# Altium schematic symbol library ICs.SchLib: 15 symbols
Pins are listed as number, name and electrical type; pins without a type are passive.

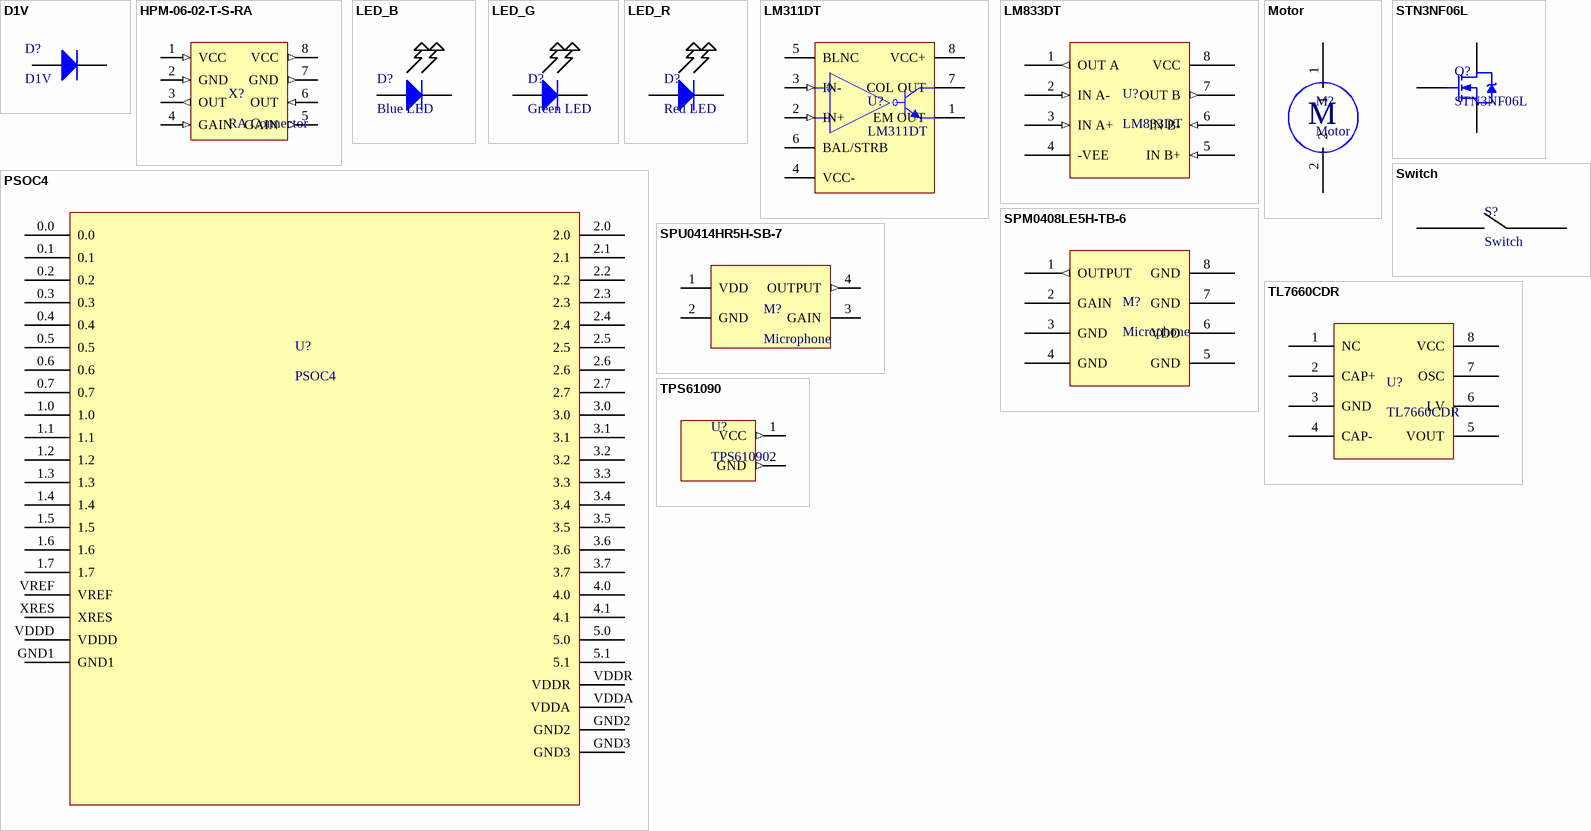
[diagram p0: symbols D1V to TPS61090]

## D1V
designator D?
Standard 1V Diode; Manufacturer: Bourns Inc.; Manufacturer Part Number: CD1206-S01575; Voltage - DC Reverse (Vr) (Max): 100V; Current - Average Rectified (Io): 150mA; Voltage - Forward (Vf) (Max) @ If: 1V @ 50mA; Speed: Small Signal =< 200mA (Io), Any Speed; Reverse Recovery Time (trr): 4ns; Current - Reverse Leakage @ Vr: 2.5µA @ 100V; Capacitance @ Vr, F: 3pF @ 0V, 100MHz; Supplier 1: Digi-Key; RoHS: RoHS Compliant; Category: Discrete Semiconductor Products; Stock 1: 122779; Pricing 1: 1=0.15, 10=0.142, 25=0.1288, 100=0.0927, 250=0.0546, 500=0.04532, 1000=0.0309, 2500=0.02626 (USD); Packaging: Cut Tape (CT); Part Status: Active; Diode Type: Standard; Mounting Type: Surface Mount; Package / Case: 1206 (3216 Metric); Supplier Device Package: 1206; Operating Temperature - Junction: -55°C ~ 125°C; ComponentLink1URL: http://www.bourns.com/docs/Product-Datasheets/CD1206_S01575.pdf; ComponentLink1Description: http://www.bourns.com/docs/Product-Datasheets/CD1206_S01575.pdf; Supplier Part Number 1: CD1206-S01575CT-ND
footprint D1206
pins: 1 A, 2 K

## HPM-06-02-T-S-RA
designator X?, comment RA Connector
Right Angle Board-to-Board Connector; Manufacturer: 3M; Manufacturer Part Number: 951104-7622-AR; Connector Type: Header, Unshrouded; Pitch: 0.079" (2.00mm); Number of Positions: 4; Number of Positions Loaded: All; Supplier 1: Digi-Key; RoHS: RoHS Compliant; Category: Connectors, Interconnects; Stock 1: 4791; Pricing 1: 1=0.41, 10=0.385, 25=0.33, 50=0.2806, 100=0.2695, 250=0.242, 500=0.231, 1000=0.1925, 2500=0.176 (USD); Packaging: Bulk; Part Status: Active; Contact Type: Male Pin; Number of Rows: 1; Row Spacing: -; Mounting Type: Through Hole, Right Angle; Termination: Solder; Fastening Type: -; Contact Mating Length: 0.173" (4.40mm); Features: -; Contact Finish: Gold; Contact Finish Thickness: Flash; Color: Black; ComponentLink1URL: http://multimedia.3m.com/mws/media/438474O/3mtm-pin-strip-header-ts2156.pdf; ComponentLink1Description: http://multimedia.3m.com/mws/media/438474O/3mtm-pin-strip-header-ts2156.pdf; Supplier Part Number 1: 3M9306-ND
footprint 951104-7622-AR
pins: 1 VCC (in), 2 GND (in), 3 OUT (out), 4 GAIN (in), 5 GAIN (out), 6 OUT (in), 7 GND (out), 8 VCC (out)

## LED_B
designator D?, comment Blue LED
Manufacturer: Cree Inc.; Manufacturer Part Number: MLEBLU-A1-0000-000T01; Description: LED XLAMP MLE BLUE 475NM 4SMD; Wavelength: 475nm (465nm ~ 485nm); Current - Test: 150mA; Voltage - Forward (Vf) (Typ): 3.2V; Lumens/Watt @ Current - Test: 27 lm/W; Current - Max: 350mA; Flux @ Current/Temperature - Test: 13 lm (11 lm ~ 14 lm); Temperature - Test: 25°C; Viewing Angle: 125°; Thermal Resistance of Package: 11°C/W; Supplier 1: Digi-Key; RoHS: RoHS Compliant; Category: Optoelectronics; Stock 1: 13229; Pricing 1: 1=0.8, 10=0.76, 50=0.7384, 100=0.68, 200=0.6184, 500=0.5792 (USD); Packaging: Cut Tape (CT); Part Status: Active; Color: Blue; Mounting Type: Surface Mount; Package / Case: 4-SMD, J-Lead Exposed Pad; Supplier Device Package: SMD; Size / Dimension: 0.138" L x 0.124" W (3.50mm x 3.15mm); Height - Seated (Max): 0.052" (1.33mm); ComponentLink1URL: http://www.cree.com/~/media/Files/Cree/LED%20Components%20and%20Modules/XLamp/Data%20and%20Binning/XlampMLE.pdf; ComponentLink1Description: http://www.cree.com/~/media/Files/Cree/LED%20Components%20and%20Modules/XLamp/Data%20and%20Binning/XlampMLE.pdf; Supplier Part Number 1: MLEBLU-A1-0000-000T01CT-ND
footprint MLEBLU-A1
pins: A, C

## LED_G
designator D?, comment Green LED
Manufacturer: Cree Inc.; Manufacturer Part Number: MLEGRN-A1-0000-000001; Wavelength: 528nm (520nm ~ 535nm); Current - Test: 150mA; Voltage - Forward (Vf) (Typ): 3.3V; Lumens/Watt @ Current - Test: 67 lm/W; Current - Max: 350mA; Flux @ Current/Temperature - Test: 33 lm (31 lm ~ 35 lm); Temperature - Test: 25°C; Viewing Angle: 125°; Thermal Resistance of Package: 15°C/W; Supplier 1: Digi-Key; RoHS: RoHS Compliant; Category: Optoelectronics; Stock 1: 2607; Pricing 1: 1=1.34, 100=1.1891, 250=1.08572, 500=0.9823 (USD); Packaging: Cut Tape (CT); Part Status: Active; Color: Green; Mounting Type: Surface Mount; Package / Case: 4-SMD, J-Lead Exposed Pad; ComponentLink1URL: http://www.cree.com/~/media/Files/Cree/LED%20Components%20and%20Modules/XLamp/Data%20and%20Binning/XlampMLE.pdf; ComponentLink1Description: http://www.cree.com/~/media/Files/Cree/LED%20Components%20and%20Modules/XLamp/Data%20and%20Binning/XlampMLE.pdf; Supplier Part Number 1: MLEGRN-A1-0000-000001CT-ND
footprint MLEGRN-A1
pins: A, C

## LED_R
designator D?, comment Red LED
Manufacturer: Cree Inc.; Manufacturer Part Number: MLERED-A1-0000-000V01; Wavelength: 625nm (620nm ~ 630nm); Current - Test: 150mA; Voltage - Forward (Vf) (Typ): 2.4V; Lumens/Watt @ Current - Test: 58 lm/W; Current - Max: 350mA; Flux @ Current/Temperature - Test: 21 lm (18 lm ~ 24 lm); Temperature - Test: 25°C; Viewing Angle: 120°; Thermal Resistance of Package: 15°C/W; Supplier 1: Digi-Key; RoHS: RoHS Compliant; Category: Optoelectronics; Stock 1: 7000; Pricing 1: 1=1.2, 100=1.0626, 250=0.9702, 500=0.8778 (USD); Packaging: Cut Tape (CT); Part Status: Active; Color: Red; Mounting Type: Surface Mount; Package / Case: 4-SMD, J-Lead Exposed Pad; ComponentLink1URL: http://www.cree.com/~/media/Files/Cree/LED%20Components%20and%20Modules/XLamp/Data%20and%20Binning/XlampMLE.pdf; ComponentLink1Description: http://www.cree.com/~/media/Files/Cree/LED%20Components%20and%20Modules/XLamp/Data%20and%20Binning/XlampMLE.pdf; Supplier Part Number 1: MLERED-A1-0000-000V01CT-ND
footprint MLERED-A1
pins: A, C

## LM311DT
designator U?
IC Comparator; Manufacturer: STMicroelectronics; Number of Elements: 1; Output Type: DTL, MOS, Open-Collector, Open-Emitter, RTL, TTL; Voltage - Supply, Single/Dual (±): 5 V ~ 30 V, ±2.5 V ~ 15 V; Voltage - Input Offset (Max): 7.5mV @ ±15V; Current - Input Bias (Max): 0.25µA @ ±15V; Current - Output (Typ): 50mA; Current - Quiescent (Max): 7.5mA; Supplier 1: Digi-Key; Manufacturer Part Number: LM311DT; RoHS: RoHS Compliant; Category: Integrated Circuits (ICs); Stock 1: 9481; Pricing 1: 1=0.39, 10=0.315, 100=0.2142, 500=0.16068, 1000=0.12051 (USD); Packaging: Cut Tape (CT); Part Status: Active; Type: General Purpose; CMRR, PSRR (Typ): -; Propagation Delay (Max): -; Hysteresis: -; Operating Temperature: 0°C ~ 70°C; Package / Case: 8-SOIC (0.154", 3.90mm Width); Mounting Type: Surface Mount; Supplier Device Package: 8-SO; ComponentLink1URL: http://www.st.com/content/ccc/resource/technical/document/datasheet/2d/22/50/0e/7e/39/43/64/CD00001072.pdf/files/CD00001072.pdf/jcr:content/translations/en.CD00001072.pdf; ComponentLink1Description: http://www.st.com/content/ccc/resource/technical/document/datasheet/2d/22/50/0e/7e/39/43/64/CD00001072.pdf/files/CD00001072.pdf/jcr:content/translations/en.CD00001072.pdf; Supplier Part Number 1: 497-1569-1-ND
footprint soic8
pins: 1 EM OUT, 2 IN+ (in), 3 IN- (in), 4 VCC-, 5 BLNC, 6 BAL/STRB, 7 COL OUT, 8 VCC+

## LM833DT
designator U?
IC Dual Audio Amplifier; Manufacturer: STMicroelectronics; Number of Circuits: 2; Slew Rate: 7 V/µs; Gain Bandwidth Product: 15MHz; Current - Input Bias: 300nA; Voltage - Input Offset: 300µV; Current - Supply: 4mA; Voltage - Supply, Single/Dual (±): 5 V ~ 30 V, ±2.5 V ~ 15 V; Supplier 1: Digi-Key; Manufacturer Part Number: LM833DT; RoHS: RoHS Compliant; Category: Integrated Circuits (ICs); Stock 1: 35363; Pricing 1: 1=0.45, 10=0.382, 100=0.2855, 500=0.22434, 1000=0.17335 (USD); Packaging: Cut Tape (CT); Part Status: Active; Amplifier Type: Audio; Output Type: -; -3db Bandwidth: -; Current - Output / Channel: -; Operating Temperature: -40°C ~ 105°C; Mounting Type: Surface Mount; Package / Case: 8-SOIC (0.154", 3.90mm Width); Supplier Device Package: 8-SO; ComponentLink1URL: http://www.st.com/content/ccc/resource/technical/document/datasheet/3b/52/12/a5/70/7c/44/0a/CD00000470.pdf/files/CD00000470.pdf/jcr:content/translations/en.CD00000470.pdf; ComponentLink1Description: http://www.st.com/content/ccc/resource/technical/document/datasheet/3b/52/12/a5/70/7c/44/0a/CD00000470.pdf/files/CD00000470.pdf/jcr:content/translations/en.CD00000470.pdf; Supplier Part Number 1: 497-1597-1-ND
footprint soic8
pins: 1 OUT A (out), 2 IN A- (in), 3 IN A+ (in), 4 -VEE, 5 IN B+ (in), 6 IN B- (in), 7 OUT B (out), 8 VCC

## Motor
designator M?
Manufacturer: JST Sales America Inc.; Manufacturer Part Number: B2B-PH-K-S(LF)(SN); Connector Type: Header, Shrouded; Number of Positions: 2; Number of Positions Loaded: All; Pitch: 0.079" (2.00mm); Supplier 1: Digi-Key; RoHS: RoHS Compliant; Category: Connectors, Interconnects; Stock 1: 349866; Pricing 1: 1=0.17, 10=0.162, 100=0.1002, 500=0.08288, 1000=0.07252, 5000=0.06216, 10000=0.06044 (USD); Packaging: Bulk; Part Status: Active; Contact Type: Male Pin; Number of Rows: 1; Row Spacing: -; Contact Mating Length: 0.130" (3.30mm); Mounting Type: Through Hole; Termination: Press-Fit, Solder; Fastening Type: Detent Lock; Features: -; Contact Finish: Tin; Contact Finish Thickness: -; Color: Natural; ComponentLink1URL: http://www.jst-mfg.com/product/pdf/eng/ePH.pdf; ComponentLink1Description: http://www.jst-mfg.com/product/pdf/eng/ePH.pdf; Supplier Part Number 1: 455-1704-ND
footprint B2B-PH-K-S
pins: 1, 2
text: M

## PSOC4
designator U?
PSOC4 Connector; Manufacturer: JST Sales America Inc.; Manufacturer Part Number: B14B-PH-K-S(LF)(SN); Connector Type: Header, Shrouded; Pitch: 0.079" (2.00mm); Number of Positions: 14; Number of Positions Loaded: All; Supplier 1: Digi-Key; RoHS: RoHS Compliant; Category: Connectors, Interconnects; Stock 1: 1457; Pricing 1: 1=0.63, 10=0.592, 100=0.4536, 500=0.39444, 1000=0.32542, 5000=0.28597, 10000=0.26625 (USD); Packaging: Bulk; Part Status: Active; Contact Type: Male Pin; Number of Rows: 1; Row Spacing: -; Mounting Type: Through Hole; Termination: Press-Fit, Solder; Fastening Type: Detent Lock; Contact Mating Length: 0.130" (3.30mm); Features: -; Contact Finish: Tin; Contact Finish Thickness: -; Color: Natural; ComponentLink1URL: http://www.jst-mfg.com/product/pdf/eng/ePH.pdf; ComponentLink1Description: http://www.jst-mfg.com/product/pdf/eng/ePH.pdf; Supplier Part Number 1: 455-1716-ND
footprint PSOC4XXX-BLE
pins: 0.0, 0.1, 0.2, 0.3, 0.4, 0.5, 0.6, 0.7, 1.0, 1.1, 1.2, 1.3, 1.4, 1.5, 1.6, 1.7, 2.0, 2.1, 2.2, 2.3, 2.4, 2.5, 2.6, 2.7, 3.0, 3.1, 3.2, 3.3, 3.4, 3.5, 3.6, 3.7, 4.0, 4.1, 5.0, 5.1, GND1, GND2, GND3, VDDA, VDDD, VDDR, VREF, XRES

## SPM0408LE5H-TB-6
designator M?, comment Microphone
MEMS Analog Microphone; Manufacturer: Knowles; Manufacturer Part Number: SPM0408LE5H-TB-6; Direction: Omnidirectional; Frequency Range: 100Hz ~ 10kHz; Sensitivity: -18dB ±3dB @ 94dB SPL; S/N Ratio: 63dB; Impedance: 200 Ohm; Voltage Range: 1.5 ~ 5.5V; Current - Supply: 350µA; Port Location: Bottom; Seal Rating: None; Shape: Rectangular; Supplier 1: Digi-Key; RoHS: RoHS Compliant; Category: Audio Products; Stock 1: 71091; Pricing 1: 1=2.82, 10=2.26, 25=2.034, 50=1.8078, 100=1.7514, 250=1.69488, 500=1.63838, 1000=1.58189 (USD); Packaging: Cut Tape (CT); Part Status: Active; Type: MEMS (Silicon); Output Type: Analog; Voltage - Rated: -; Termination: Surface Mount; Size / Dimension: 4.72mm L x 3.76mm W; Height (Max): 1.35mm; ComponentLink1URL: http://media.digikey.com/pdf/Data%20Sheets/Knowles%20Acoustics%20PDFs/SPM0408LE5H-TB.pdf; ComponentLink1Description: http://media.digikey.com/pdf/Data%20Sheets/Knowles%20Acoustics%20PDFs/SPM0408LE5H-TB.pdf; Supplier Part Number 1: 423-1129-1-ND
footprint SPM0408LE5H-TB
pins: 1 OUTPUT (out), 2 GAIN, 3 GND, 4 GND, 5 GND, 6 VDD, 7 GND, 8 GND

## SPU0414HR5H-SB-7
designator M?, comment Microphone
MIC MEMS ANALOG OMNI -22DB; Manufacturer: Knowles; Manufacturer Part Number: SPU0414HR5H-SB-7; Direction: Omnidirectional; Frequency Range: 100Hz ~ 10kHz; Sensitivity: -22dB ±3dB @ 94dB SPL; S/N Ratio: 59dB; Impedance: 400 Ohm; Voltage Range: 1.5 ~ 3.6V; Current - Supply: 220µA; Port Location: Top; Seal Rating: None; Shape: Rectangular; Supplier 1: Digi-Key; RoHS: RoHS Compliant; Category: Audio Products; Stock 1: 124760; Pricing 1: 1=2.01, 10=1.748, 25=1.3596, 50=1.23, 100=1.1005, 250=1.06812, 500=1.03576, 1000=0.93866 (USD); Packaging: Digi-Reel®; Part Status: Active; Type: MEMS (Silicon); Output Type: Analog; Voltage - Rated: -; Termination: Surface Mount; Size / Dimension: 3.76mm L x 2.95mm W; Height (Max): 1.20mm; ComponentLink1URL: http://www.knowles.com/eng/content/download/3915/49630/version/7/file/SPU0414HR5H-SB.pdf; ComponentLink1Description: http://www.knowles.com/eng/content/download/3915/49630/version/7/file/SPU0414HR5H-SB.pdf; Supplier Part Number 1: 423-1134-6-ND
footprint SPU0414HR5H-SB-7
pins: 1 VDD, 2 GND, 3 GAIN, 4 OUTPUT (out)

## STN3NF06L
designator Q?
N-Channel 4A Power MOSFET; Manufacturer: STMicroelectronics; Drain to Source Voltage (Vdss): 60V; Current - Continuous Drain (Id) @ 25°C: 4A (Tc); Drive Voltage (Max Rds On,  Min Rds On): 5V, 10V; Vgs(th) (Max) @ Id: 2.8V @ 250µA; Gate Charge (Qg) (Max) @ Vgs: 9nC @ 5V; Input Capacitance (Ciss) (Max) @ Vds: 340pF @ 25V; Vgs (Max): ±16V; Power Dissipation (Max): 3.3W (Tc); Rds On (Max) @ Id, Vgs: 100 mOhm @ 1.5A, 10V; Supplier 1: Digi-Key; Manufacturer Part Number: STN3NF06L; RoHS: RoHS Compliant; Category: Discrete Semiconductor Products; Stock 1: 8902; Pricing 1: 1=0.63, 10=0.541, 100=0.4038, 500=0.31724, 1000=0.24514 (USD); Packaging: Digi-Reel®; Part Status: Active; FET Type: N-Channel; Technology: MOSFET (Metal Oxide); FET Feature: -; Operating Temperature: -55°C ~ 150°C (TJ); Mounting Type: Surface Mount; Supplier Device Package: SOT-223; Package / Case: TO-261-4, TO-261AA; ComponentLink1URL: http://www.st.com/content/ccc/resource/technical/document/datasheet/b1/52/93/f0/a9/a9/40/d7/CD00002430.pdf/files/CD00002430.pdf/jcr:content/translations/en.CD00002430.pdf; ComponentLink1Description: http://www.st.com/content/ccc/resource/technical/document/datasheet/b1/52/93/f0/a9/a9/40/d7/CD00002430.pdf/files/CD00002430.pdf/jcr:content/translations/en.CD00002430.pdf; Supplier Part Number 1: 497-3177-6-ND
footprint SOT-223
pins: 1 G, 2 D, 3 S

## Switch
designator S?
Surface Mount Switch; Manufacturer: Copal Electronics Inc.; Manufacturer Part Number: CHS-01TB; Circuit: SPST; Number of Positions: 1; Current Rating: 100mA; Voltage Rating: 6VDC; Actuator Type: Slide (Standard); Actuator Level: Flush, Recessed; Pitch: 0.050" (1.27mm), Half; Washable: Yes; Body Material: Polyphenylene Sulfide (PPS); Electrical Life: 2,000 Cycles; Supplier 1: Digi-Key; RoHS: RoHS Compliant; Category: Switches; Stock 1: 50184; Pricing 1: 1=0.97, 10=0.952, 25=0.8976, 50=0.8424, 100=0.8059, 250=0.76924, 500=0.69598 (USD); Packaging: Digi-Reel®; Part Status: Active; Contact Material: Copper Alloy; Contact Finish: Gold; Height Above Board: 0.098" (2.50mm); Mounting Type: Surface Mount; Termination Style: Gull Wing; Features: Tape Seal; Length: 0.098" (2.50mm); Operating Temperature: -40°C ~ 85°C; Mechanical Life: -; ComponentLink1URL: http://www.nidec-copal-electronics.com/e/catalog/switch/chs.pdf; ComponentLink1Description: http://www.nidec-copal-electronics.com/e/catalog/switch/chs.pdf; Supplier Part Number 1: 563-1004-6-ND
footprint CHS-01TB
pins: 1, 2

## TL7660CDR
designator U?
IC Switched Cap Voltage Inverter; Manufacturer: Texas Instruments; Function: Ratiometric; Output Configuration: Positive or Negative; Topology: Charge Pump; Output Type: Fixed; Number of Outputs: 1; Voltage - Input (Min): 1.5V; Voltage - Input (Max): 10V; Voltage - Output (Min/Fixed): -Vin, 2Vin; Frequency - Switching: 10kHz; Synchronous Rectifier: No; Supplier 1: Digi-Key; Manufacturer Part Number: TL7660CDR; RoHS: RoHS Compliant; Category: Integrated Circuits (ICs); Stock 1: 1431; Pricing 1: 1=1.36, 10=1.216, 100=0.948, 500=0.784, 1000=0.62 (USD); Packaging: Cut Tape (CT); Part Status: Active; Voltage - Output (Max): -; Current - Output: -; Operating Temperature: -40°C ~ 85°C (TA); Mounting Type: Surface Mount; Package / Case: 8-SOIC (0.154", 3.90mm Width); Supplier Device Package: 8-SOIC; ComponentLink1URL: http://www.ti.com/lit/ds/symlink/tl7660.pdf; ComponentLink1Description: http://www.ti.com/lit/ds/symlink/tl7660.pdf; Supplier Part Number 1: 296-21856-1-ND
footprint soic8
pins: 1 NC, 2 CAP+, 3 GND, 4 CAP-, 5 VOUT, 6 LV, 7 OSC, 8 VCC

## TPS61090
designator U?
Power Electronics Connector; Manufacturer: JST Sales America Inc.; Manufacturer Part Number: B2B-PH-K-S(LF)(SN); Connector Type: Header; Pitch - Mating: 0.079" (2.00mm); Shrouding: Shrouded - 4 Wall; Number of Positions: 2; Number of Positions Loaded: All; Contact Length - Mating: 0.130" (3.30mm); Supplier 1: Digi-Key; RoHS: RoHS Compliant; Category: Connectors, Interconnects; Stock 1: 327416; Pricing 1: 1=0.17, 10=0.162, 100=0.1002, 500=0.08288, 1000=0.07252, 5000=0.06216, 10000=0.06044 (USD); Packaging: Bulk; Part Status: Active; Contact Type: Male Pin; Number of Rows: 1; Row Spacing - Mating: -; Mounting Type: Through Hole; Termination: Press-Fit, Solder; Fastening Type: Detent Lock; Features: -; Contact Finish - Mating: Tin; Contact Finish Thickness - Mating: -; Insulation Color: Natural; Ingress Protection: -; ComponentLink1URL: http://www.jst-mfg.com/product/pdf/eng/ePH.pdf; ComponentLink1Description: http://www.jst-mfg.com/product/pdf/eng/ePH.pdf; Supplier Part Number 1: 455-1704-ND
footprint B2B-PH-K-S
pins: 1 VCC (out), 2 GND (out)